# EAGLE library part B3725 (library lib_stankus)
B3725 Farnell #2360866
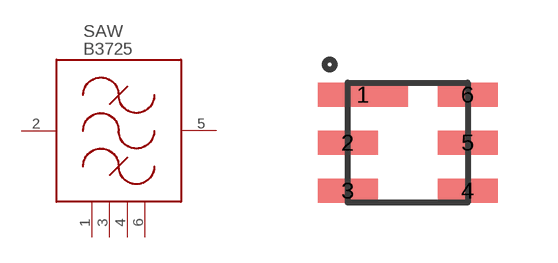
[diagram p118: symbol with the pads of B3725; footprint B3725]

Designator prefix SAW

## B3725  [B3725]
1  1  pas
2  2  pas
3  3  pas
4  4  pas
5  5  pas
6  6  pas

## Footprint B3725 (pad centres in mm)
B3725
smd 2.25 x 0.6: 1 -1.125,1.2
smd 1.5 x 0.6: 2 -1.5,0; 3 -1.5,-1.2; 4 1.5,-1.2; 5 1.5,0; 6 1.5,1.2